# Altium schematic symbol library KRE_02.SchLib: 1 symbol
Pins are listed as number, name and electrical type; pins without a type are passive.

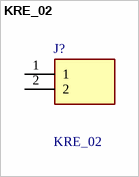
[diagram p0: symbol KRE_02]

## KRE_02
designator J?
LUMBERG - KRE 02 - Wire-To-Board Terminal Block, 5 mm, 2 Ways, 4 mm, Screw; Manufacturer_Part_Number: KRE 02; Geometry.Height: 15.5mm; Farnell Part Number: *; Farnell Price/Stock: *; Manufacturer_Name: LUMBERG; Datasheet Link: https://componentsearchengine.com/Datasheets/2/KRE 02.pdf
footprint KRE02
pins: 1, 2